# Altium footprint library WL-SIRW.PcbLib: 2 footprints
Each footprint in its own frame and in the unit in brackets; x right, y up, seen from the top. Pads: shape width x height; smd on the part's side, far side on the other; paste and mask are expansions set on the pad; w line width, h text height; cw(c..) or ccw(c..) is an arc to the next point about the centre after c.
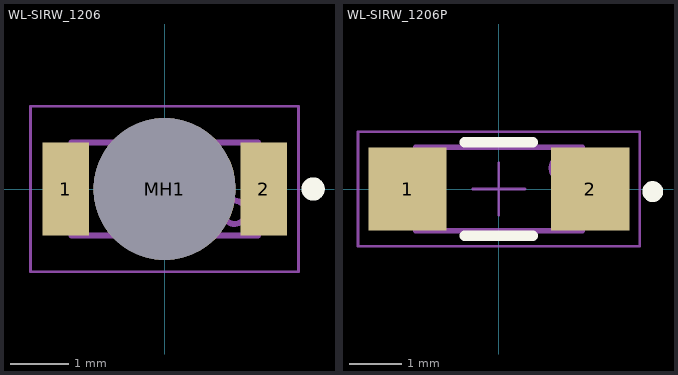
[diagram p0: the footprints below, top view; thin cyan lines are the x and y axes]

## WL-SIRW_1206 [mm] "SMD Infrared Reverse mount Waterclear Dome, body 3.2x1.6mm"
height 0.28
pads (3):
  rect 0.8x1.6 smd: 1(-1.7,0) 2(1.7,0)
  round 2.44 hole 2.44 unplated: MH1(0,0)
Top Overlay:
  circle w0.2: c2.55,0 r0.1
Top Designator:
  text ".Designator" at -3.499,-0.233 h0.7
Top Component Outline:
  circle w0.1: c1.2,-0.4 r0.2
  lines w0.1: -1.6,-0.8 -1.6,0.8 1.6,0.8 1.6,-0.8 -1.6,-0.8
Top 3D Body:
  region: -0.8,0.8 -0.8,-0.8 -0.4,-0.8 -0.4,-0.15 0.8,-0.15 0.8,0.15 -0.4,0.15 -0.4,0.8
  lines w0.1: -1.6,-0.8 1.6,-0.8 1.6,0.8 -1.6,0.8 -1.6,-0.8
Top Courtyard:
  lines w0.05: -0.5,0 0.5,0 ; 0,-0.5 0,0.5 ; -2.3,-1.42 -2.3,1.42 2.3,1.42 2.3,-1.42 -2.3,-1.42
3D body "15412085xxx.stp": height 0.28, standoff -1.57, extent -1.6,-0.8 1.6,0.8

## WL-SIRW_1206P [mm] "SMD Infrared Reverse mount Waterclear Dome, body 3.2x1.6mm"
height 1.85
pads (2):
  rect 1.5x1.6 smd: 1(-1.75,0) 2(1.75,0)
Top Overlay:
  circle w0.2: c2.95,-0.05 r0.1
  lines w0.2: -0.65,-0.9 0.65,-0.9 ; -0.65,0.9 0.65,0.9
Top Designator:
  text ".Designator" at -3.499,-0.233 h0.7
Top Component Outline:
  circle w0.1: c1.2,0.4 r0.2
  lines w0.1: -1.6,-0.8 -1.6,0.8 1.6,0.8 1.6,-0.8 -1.6,-0.8
Top 3D Body:
  circle w0.1: c1.2,0.4 r0.2
  lines w0.1: -1.6,-0.8 1.6,-0.8 1.6,0.8 -1.6,0.8 -1.6,-0.8
Top Courtyard:
  lines w0.05: -0.5,0 0.5,0 ; 0,-0.5 0,0.5 ; -2.7,-1.1 -2.7,1.1 2.7,1.1 2.7,-1.1 -2.7,-1.1
3D body "15412085xxx.stp": height 1.85, standoff 0, extent -1.6,-0.8 1.6,0.8